# EAGLE library part TL074 (library uBraids_SE)
OP AMP
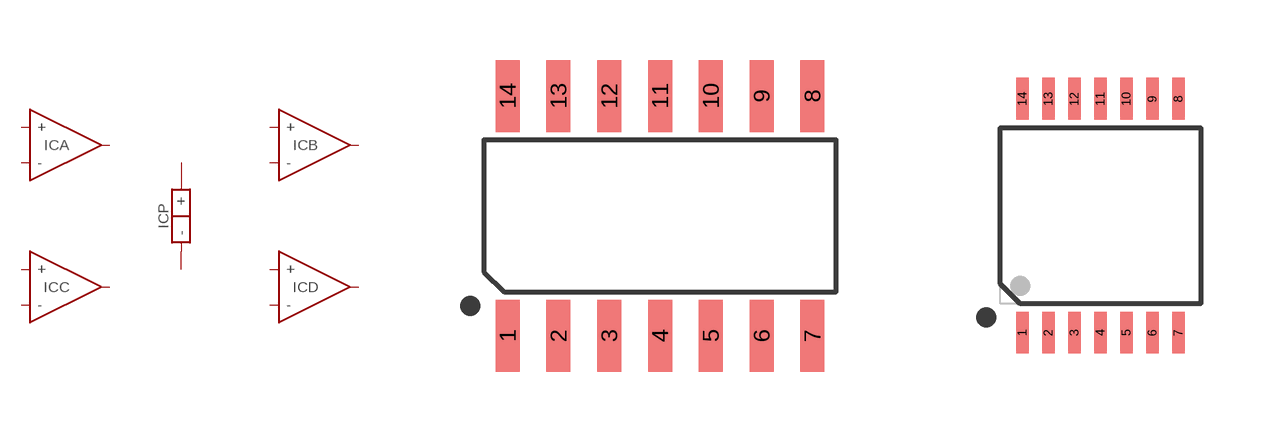
[diagram p8: symbol with the pads of SO-14; footprints SO-14, TSSOP-14]

Designator prefix IC; gates A=OPAMP B=OPAMP C=OPAMP D=OPAMP P=POWER

## TL074-SO-14  [SO-14]
1  A:OUT  out
2  A:-  in
3  A:+  in
4  P:+
5  B:+  in
6  B:-  in
7  B:OUT  out
8  C:OUT  out
9  C:-  in
10  C:+  in
11  P:-
12  D:+  in
13  D:-  in
14  D:OUT  out

## TL074-TSSOP-14  [TSSOP-14]
Pads as for SO-14

## Footprint SO-14 (pad centres in mm)
Small Outline package 150 mil
smd 0.6 x 1.8: 1 -3.81,-3; 2 -2.54,-3; 3 -1.27,-3; 4 0,-3; 5 1.27,-3; 6 2.54,-3; 7 3.81,-3; 8 3.81,3; 9 2.54,3; 10 1.27,3; 11 0,3; 12 -1.27,3; 13 -2.54,3; 14 -3.81,3

## Footprint TSSOP-14 (pad centres in mm)
smd 0.32 x 1.05: 1 -1.95,-2.925; 2 -1.3,-2.925; 3 -0.65,-2.925; 4 0,-2.925; 5 0.65,-2.925; 6 1.3,-2.925; 7 1.95,-2.925; 8 1.95,2.925; 9 1.3,2.925; 10 0.65,2.925; 11 0,2.925; 12 -0.65,2.925; 13 -1.3,2.925; 14 -1.95,2.925